# Altium schematic symbol library max30102_50k.SchLib: 1 symbol
Pins are listed as number, name and electrical type; pins without a type are passive.

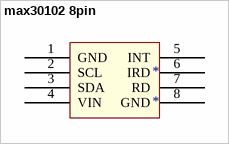
[diagram p0: symbol max30102 8pin]

## max30102 8pin
designator *
Giá hàng: 45k
footprint max30102 8pin
pins: 1 GND, 2 SCL, 3 SDA, 4 VIN, 5 INT, 6 IRD, 7 RD, 8 GND